# EAGLE library part IR2111SPBF (library International_Rectifier_By_element14_Batch_1)
SINGLE HIGH SIDE DRIVER IC
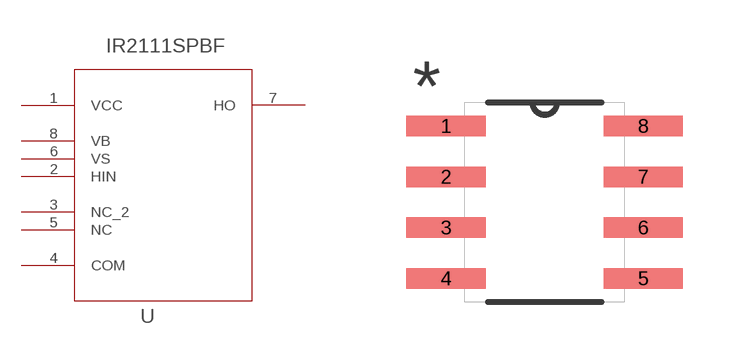
[diagram p47: symbol with the pads of SOIC127P600X175-8N; footprint SOIC127P600X175-8N]

Designator prefix U

## IR2111SPBF (MPN: IR2111SPBF; OC_FARNELL: 8638861; OC_NEWARK: 63J7862; PACKAGE: SOIC-8; SUPPLIER: INTERNATIONAL RECTIFIER)  [SOIC127P600X175-8N]
1  VCC  pwr
2  HIN  in
3  NC_2  nc
4  COM  pas
5  NC  nc
6  VS  pwr
7  HO  out
8  VB  in

## Footprint SOIC127P600X175-8N (pad centres in mm)
smd 1.981 x 0.508: 1 -2.464,1.905; 2 -2.464,0.635; 3 -2.464,-0.635; 4 -2.464,-1.905; 5 2.464,-1.905; 6 2.464,-0.635; 7 2.464,0.635; 8 2.464,1.905